# Altium footprint library KRE02.PcbLib: 1 footprints
Each footprint in its own frame and in the unit in brackets; x right, y up, seen from the top. Pads: shape width x height; smd on the part's side, far side on the other; paste and mask are expansions set on the pad; w line width, h text height; cw(c..) or ccw(c..) is an arc to the next point about the centre after c.
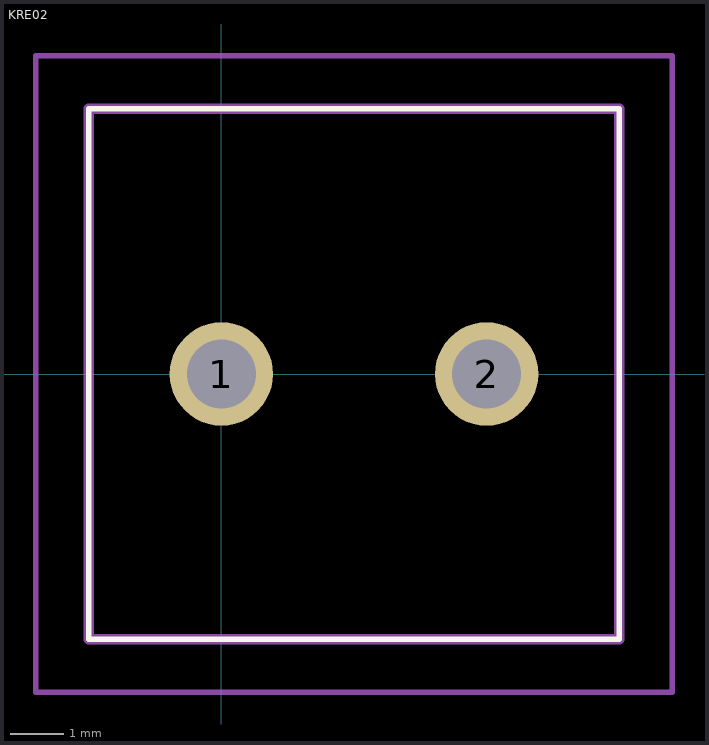
[diagram p0: the footprint, top view; thin cyan lines are the x and y axes]

## KRE02 [mm]
pads (2):
  round 1.95 hole 1.3: 1(0,0) 2(5,0)
Top Overlay:
  lines w0.1: -2.5,-5 7.5,-5 7.5,5 -2.5,5 -2.5,-5
Mechanical 15:
  lines w0.2: -2.5,-5 7.5,-5 7.5,5 -2.5,5 -2.5,-5
Mechanical 20:
  lines w0.1: -3.5,-6 8.5,-6 8.5,6 -3.5,6 -3.5,-6